# Altium schematic symbol library DX_test_lib2.SchLib: 40 symbols
Pins are listed as number, name and electrical type; pins without a type are passive.

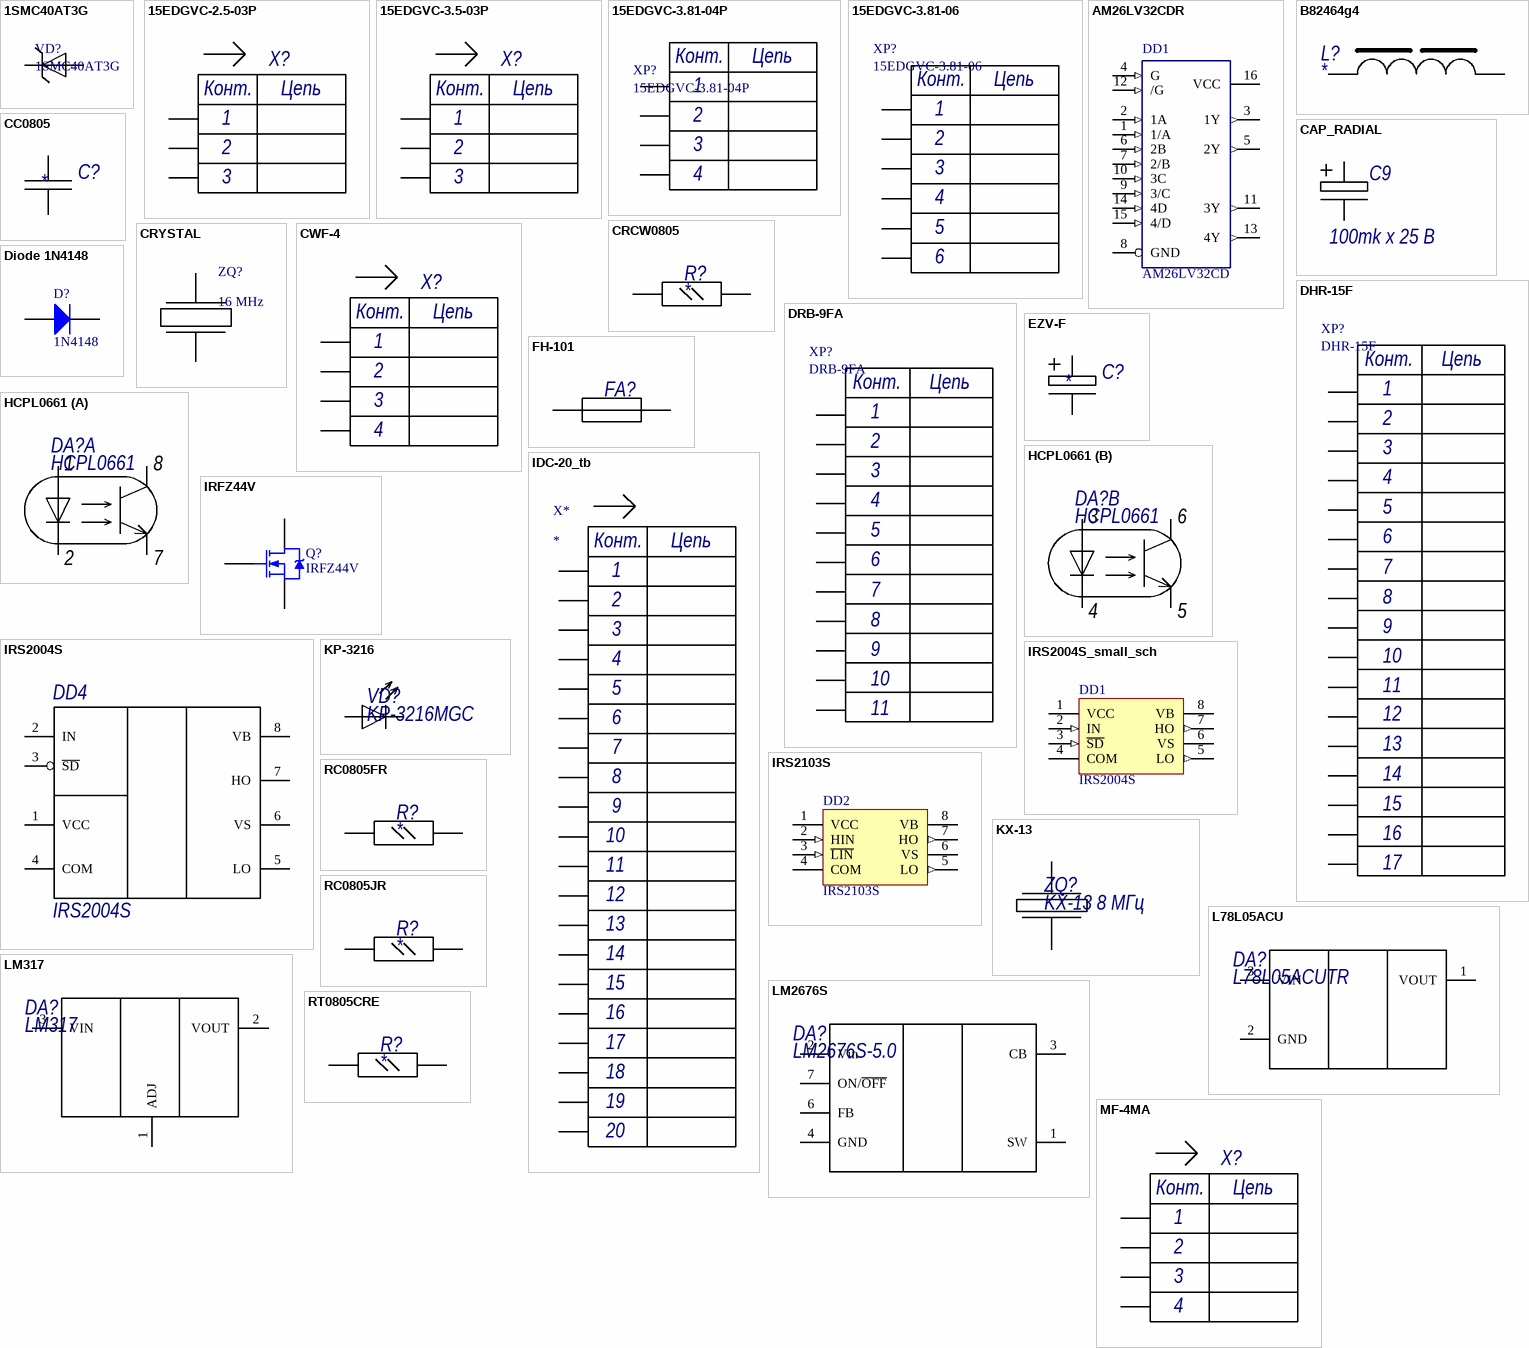
[diagram p0: symbols 1SMC40AT3G to RT0805CRE]

## 1SMC40AT3G
designator VD?
TVS Diode 1.5kV 40V; ComponentName: 1SMC40AT3G; ComponentType: Диод
footprint DDPAK
pins: 1 K "Катод", 2 A "Анод"

## 15EDGVC-2.5-03P
designator X?  (value not drawn)
Клеммник разъемный прямой; Manufacturer: DEGSON; ComponentType: Клеммник разъемный; ComponentName: 15EDGVC-2.5-03P
footprint 15EDGVC-2.5-03P
pins: 1, 2, 3
text: Конт.; Цепь

## 15EDGVC-3.5-03P
designator X?  (value not drawn)
Клеммник разъемный прямой; Manufacturer: DEGSON; ComponentType: Клеммник разъемный; ComponentName: 15EDGVC-3.5-03P
footprint 15EDGVC-3.5-03P
pins: 1, 2, 3
text: Конт.; Цепь

## 15EDGVC-3.81-04P
designator XP?
Connector; ComponentName: 15EDGVC-3.81-04P; ComponentType: Разъём
footprint 15EDGVC-3.81-04P
pins: 1, 2, 3, 4
text: Конт.; Цепь

## 15EDGVC-3.81-06
designator XP?
Connector 15EDGVC-3.81-06; ComponentName: 15EDGVC-3.81-06; ComponentType: Разъём
footprint 15EDGVC-3.81-06
pins: 1, 2, 3, 4, 5, 6
text: Конт.; Цепь

## AM26LV32CDR
designator DD1, comment AM26LV32CD
Differential line receiver; CompName: Микросхема; CompType: AM26LV32CD
footprint SO16_N (SOIC, 16-Leads, Body 9.9x3.9mm, Pitch 1.27mm, IPC Medium Density)
pins: 1 1/A (in), 2 1A (in), 3 1Y (out), 4 G (in), 5 2Y (out), 6 2B (in), 7 2/B (in), 8 GND (power), 9 3/C (in), 10 3C (in), 11 3Y (out), 12 /G (in), 13 4Y (out), 14 4D (in), 15 4/D (in), 16 VCC (power)

## B82464g4
designator L?
Силовой дроссель; Manufacturer: Epcos; ComponentName: B82464-G4334-M; ComponentType: Дроссель; Value: *
footprint B82464g4
pins: 1, 2

## CAP_RADIAL
designator C9, comment 100mk x 25 В
Выводные электролитические конденсаторы; Manufacturer: HITANO; Accuracy: 20%; CVoltage: 25 В; ComponentName: ECR; ComponentType: Конденсатор электролитический; Value: 100mk
footprint C_D5/F2.0_V
footprint C_D6.5/F2.5_V (Конденсатор, диаметр корпуса 6.5мм, межвыводное расстояние 2.5мм, вертикальное положение)
footprint C_D8/F3.5_V
footprint C_D10/F5.0_V
footprint C_D13/F5.0_V (Конденсатор 13х21x5, d=0.6)
pins: 1, 2

## CC0805
designator C?
Конденсатор; Manufacturer: YAGEO; Accuracy: 10%; CVoltage: 50 В; TC Material: X7R; ComponentName: СС0805; PackageName: 0805; ComponentType: Конденсатор; Value: *
footprint 0805
footprint 0805_A
pins: 1, 2

## CRCW0805
designator R?
Резистор; Accuracy: 5%; ComponentName: CRCW0805; PackageName: 0805; ComponentType: Резистор; Value: *
footprint 0805
footprint 0805_A
pins: 1, 2

## CRYSTAL
designator ZQ?, comment 16 MHz
Quarz_Crystal; ComponentName: 16 MHz; ComponentType: Quarz_Crystal
footprint CRYSTAL (Quarz_Crystal)
pins: 1, 2

## CWF-4
designator X?  (value not drawn)
Разъем питания, шаг 2.5мм; ComponentType: Разъем; ComponentName: CWF-4
footprint CWF-4
pins: 1, 2, 3, 4
text: Конт.; Цепь

## DHR-15F
designator XP?
Connector DHS-15F; ComponentName: DHR-15F; ComponentType: Разъём
footprint DHR-15F
pins: 1, 2, 3, 4, 5, 6, 7, 8, 9, 10, 11, 12, 13, 14, 15, 16, 17
text: Конт.; Цепь

## Diode 1N4148
designator D?, comment 1N4148
High Conductance Fast Diode; PackageName: DO-41; ComponentName: 1N4148; ComponentType: High Conductance Fast Diode; Manufacturer: *
footprint DIODE_DL-35 (Metal Electrode Face (MELF) Diode; Body 3.5 x 1.5 mm (LxDia))
simulation model 1N4148 (DIODE)
signal-integrity model 1N4148
pins: 1 A, 2 K

## DRB-9FA
designator XP?
Connector DRB-9FA; ComponentName: DRB-9FA; ComponentType: Разъём
footprint DRB-9FA
pins: 1, 2, 3, 4, 5, 6, 7, 8, 9, 10, 11
text: Конт.; Цепь

## EZV-F
designator C?
Конденсатор электролитический; Manufacturer: HITANO; Accuracy: 20%; CVoltage: 50 В; ComponentName: EZV-F; ComponentType: Конденсатор электролитический; Value: *
footprint ELCAP_SIZE_F
pins: 1, 2

## FH-101
designator FA?
Держатель предохранителя без крышки; ComponentName: FH-101; ComponentType: Держатель предохранителя
footprint FH-101
pins: 1, 2

## HCPL0661
designator DA?
Оптопара 2 канала; Manufacturer: HP; PackageName: SO-8; ComponentType: Микросхема; ComponentName: HCPL0661
footprint SO8N_MS012AA-II (www.avagotech.com, AV01-0547EN.pdf)
part A pins: 1 ANODE1 "Анод", 2 CATHODE1 "Катод", 7 E1 "Эмиттер", 8 C1 "Коллектор"
part B pins: 3 ANODE2 "Анод", 4 CATHODE2 "Катод", 5 E2 "Эмиттер", 6 C2 "Коллектор"

## IDC-20_tb
designator X*
Компонент для торцевой запайки IDC-20
footprint SO-8
pins: 1, 2, 3, 4, 5, 6, 7, 8, 9, 10, 11, 12, 13, 14, 15, 16, 17, 18, 19, 20
text: Конт.; Цепь

## IRFZ44V
designator Q?
N-Channel Power MOSFET; PackageName: TO-220AB; ComponentName: IRFZ44V; ComponentType: N-Channel Power MOSFET; Manufacturer: *
footprint TO-220AB (TO, Thru-Hole, Vertical, Heatsink Mounted; 3 In-Line Leads; Pitch 2.54 mm)
simulation model IRF1010 (Spice Subcircuit)
pins: 1 G, 2 D, 3 S

## IRS2004S
designator DD4
Драйвер MSFET; Manufacturer: IRF; PackageName: SO-8; ComponentType: Микросхема; ComponentName: IRS2004S
footprint SO-8
pins: 1 VCC, 2 IN, 3 ~{SD}, 4 COM, 5 LO, 6 VS, 7 HO, 8 VB

## IRS2004S_small_sch
designator DD1, comment IRS2004S
Драйвер MSFET; ComponentName: IRS2004S; ComponentType: Микросхема; Manufacturer: *; PackageName: SO-8
footprint SO-8
pins: 1 VCC (power), 2 IN (in), 3 ~{SD} (in), 4 COM (power), 5 LO (out), 6 VS (power), 7 HO (out), 8 VB (power)

## IRS2103S
designator DD2
Драйвер MSFET
footprint SO8
pins: 1 VCC (power), 2 HIN (in), 3 ~{LIN} (in), 4 COM (power), 5 LO (out), 6 VS (power), 7 HO (out), 8 VB (power)

## KP-3216
designator VD?, comment KP-3216MGC
Светодиод; Manufacturer: Kingbright; ComponentType: Светодиод; ComponentName: KP-3216MGC
footprint LED3216
pins: 1 A "Анод", 2 K "Катод"

## KX-13
designator ZQ?, comment KX-13 8 МГц
Резонатор кварцевый; Manufacturer: Geyer; ComponentType: Резонатор кварцевый; ComponentName: KX-13 8 МГц
footprint KX-13; pin to pad 2>3
pins: 1, 2

## L78L05ACU
designator DA?, comment L78L05ACUTR
Линейный стабилизатор напряжения; Manufacturer: STM; PackageName: SOT-89; ComponentType: Микросхема; ComponentName: L78L05ACUTR
footprint SOT-89
pins: 1 VOUT, 2 GND, 3 VIN

## LM317
designator DA?
Микросхема; PackageName: SOT-223; ComponentType: Микросхема; ComponentName: LM317; Mnufacturer: *
footprint SOT223_N (SOT223, 4-Leads, Body 6.5x3.5mm, Pitch 2.3mm, Lead Span 7mm, IPC Medium Density)
pins: 1 ADJ, 2 VOUT, 3 VIN

## LM2676S
designator DA?, comment LM2676S-5.0
понижающи регулятор 3 А; Manufacturer: Texas Instr.; PackageName: DDPAK; ComponentType: Микросхема; ComponentName: LM2676S-5.0
footprint DDPAK
pins: 1 SW, 2 Vin, 3 CB, 4 GND, 6 FB, 7 ON/~{OFF}

## MF-4MA
designator X?  (value not drawn)
Разъем, Mini-Fit; ComponentType: Разъем; ComponentName: MF-4MA
footprint MF-4MA
pins: 1, 2, 3, 4
text: Конт.; Цепь

## RC0805FR
designator R?
Резистор общего назначения 1%; Manufacturer: YAGEO; ComponentName: RC0805FR; PackageName: 0805; ComponentType: Резистор; Accuracy: 1%; Value: *
footprint 0805
footprint 0805_A
pins: 1, 2

## RC0805JR
designator R?
Резистор общего назначения 5%; Manufacturer: YAGEO; ComponentName: RC0805JR; PackageName: 0805; ComponentType: Резистор; Accuracy: 5%; Value: *
footprint 0805
footprint 0805_A
pins: 1, 2

## RT0805CRE
designator R?
Резистор прецизионный 0,25%, 50ppm/град; Manufacturer: YAGEO; Accuracy: 0,25%; ComponentName: RT0805CRE; PackageName: 0805; ComponentType: Резистор; Value: *
footprint 0805
footprint 0805_A
pins: 1, 2

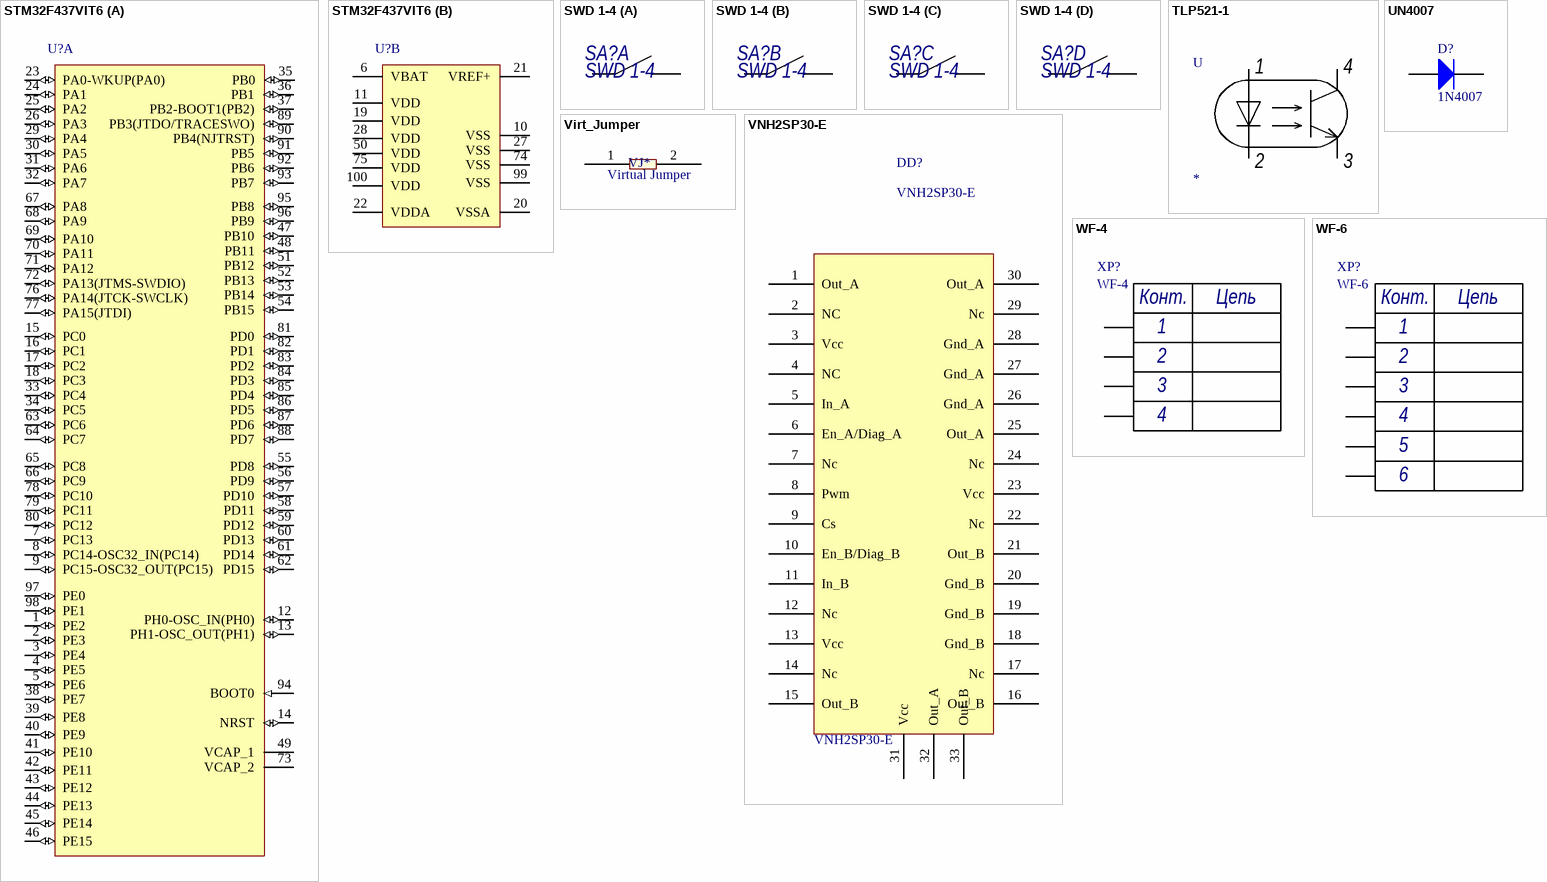
[diagram p1: symbols STM32F437VIT6 to WF-6]

## STM32F437VIT6
designator U?
ARM Cortex-M4 32-bit MCU+FPU, 210 DMIPS, 2048 kB Flash, 256 kB Internal RAM, 82 I/Os, 100-pin LQFP, -40 to 85 degC, Tray; Manufacturer: STMicroelectronics; PartNumber: STM32F437VIT6; D/A Converter: 2x12-bit; FLASH Size (Prog) (kB): 2048; I/Os (High Current): 82; Internal RAM Size (kB): 256; Operating Frequency(F) (Processor speed) (MHz): 168; Supply Voltage(Vcc) max (V): 3.6; Supply Voltage(Vcc) min (V): 1.8; DatasheetVersion: Rev. 1; PackageVersion: Rev. 1, 06/2013; PackageReference: LQFP100; PackageDescription: 100-Pin Low Profile Quad Flat Package, 14 x 14 mm Body, 0.5 mm Pitch; Supplier 1: Digi-Key; Supplier Part Number 1: STM32F437VIT6-ND; Supplier 2: Farnell; Supplier Part Number 2: 2333377; Supplier 3: Newark; Supplier Part Number 3: 99W9934; Supplier 4: Newark; Supplier Part Number 4: 66W7318; Supplier 5: Mouser; Supplier Part Number 5: 511-STM32F437VIT6; Core: ARM Cortex-M4; Packing: Tray; Mounting Technology: Surface Mount; ComponentLink1Description: Manufacturer URL; ComponentLink1URL: http://www.st.com/web/en/home.html; ComponentLink2Description: Datasheet; ComponentLink2URL: http://www.st.com/st-web-ui/static/active/en/resource/technical/document/datasheet/DM00077036.pdf; ComponentLink3Description: Package Specification; ComponentLink3URL: http://www.st.com/st-web-ui/static/active/en/resource/technical/document/data_brief/DM00071938.pdf
footprint STM-LQFP100_V (Thin QFP, 100-Leads, Body 14x14mm, Pitch 0.5mm, ST Recommended)
part A pins: 1 PE2 (io) "PE2/TRACECLK,FSMC_A23,ETH_MII_TXD3,EVENTOUT,SPI4_SCK", 2 PE3 (io) "PE3/TRACED0,FSMC_A19,EVENTOUT,SPI4_NSS", 3 PE4 (io) "PE4/TRACED1,FSMC_A20,DCMI_D4,EVENTOUT,SPI4_NSS", 4 PE5 (io) "PE5/TRACED2,FSMC_A21,TIM9_CH1,DCMI_D6,EVENTOUT,SPI4_MISO", 5 PE6 (io) "PE6/TRACED3,FSMC_A22,TIM9_CH2,DCMI_D7,EVENTOUT,SPI4_MOSI", 7 PC13 (io) "PC13/EVENTOUT/RTC_OUT,RTC_TAMP1,RTC_TS", 8 PC14-OSC32_IN(PC14) (io) "PC14-OSC32_IN(PC14)/EVENTOUT/OSC32_IN", 9 PC15-OSC32_OUT(PC15) (io) "PC15-OSC32_OUT(PC15)/EVENTOUT/OSC32_OUT", 12 PH0-OSC_IN(PH0) (io) "PH0-OSC_IN(PH0)/EVENTOUT/OSC_IN", 13 PH1-OSC_OUT(PH1) (io) "PH1-OSC_OUT(PH1)/EVENTOUT/OSC_OUT", 14 NRST (io), 15 PC0 (io) "PC0/OTG_HS_ULPI_STP,EVENTOUT/ADC123_IN10", 16 PC1 (io) "PC1/ETH_MDC,EVENTOUT/ADC123_IN11", 17 PC2 (io) "PC2/SPI2_MISO,OTG_HS_ULPI_DIR,ETH_MII_TXD2,I2S2ext_SD,EVENTOUT/ADC123_IN12", 18 PC3 (io) "PC3/SPI2_MOSI/I2S2_SD,OTG_HS_ULPI_NXT,ETH_MII_TX_CLK,EVENTOUT/ADC123_IN13", 23 PA0-WKUP(PA0) (io) "PA0-WKUP(PA0)/USART2_CTS,UART4_TX,ETH_MII_CRS,TIM2_CH1_ETR,TIM5_CH1,TIM8_ETR,EVENTOUT/ADC123_IN0,WKUP", 24 PA1 (io) "PA1/USART2_RTS,UART4_RX,ETH_RMII_REF_CLK,ETH_MII_RX_CLK,TIM5_CH2,TIMM2_CH2,EVENTOUT/ADC123_IN1", 25 PA2 (io) "PA2/USART2_TX,TIM5_CH3,TIM9_CH1,TIM2_CH3,ETH_MDIO,EVENTOUT/ADC123_IN2", 26 PA3 (io) "PA3/USART2_RX,TIM5_CH4,TIM9_CH2,TIM2_CH4,OTG_HS_ULPI_D0,ETH_MII_COL,EVENTOUT/ADC123_IN3", 29 PA4 (io) "PA4/SPI1_NSS,SPI3_NSS,USART2_CK,DCMI_HSYNC,OTG_HS_SOF,I2S3_WS,EVENTOUT/ADC12_IN4,DAC1_OUT", 30 PA5 (io) "PA5/SPI1_SCK,OTG_HS_ULPI_CK,TIM2_CH1_ETR,TIM8_CH1N,EVENTOUT/ADC12_IN5,DAC2_OUT", 31 PA6 (io) "PA6/SPI1_MISO,TIM8_BKIN,TIM13_CH1,DCMI_PIXCLK,TIM3_CH1,TIM1_BKIN,EVENTOUT/ADC12_IN6", 32 PA7 (io) "PA7/SPI1_MOSI,TIM8_CH1N,TIM14_CH1,TIM3_CH2,ETH_MII_RX_DV,TIM1_CH1N,ETH_RMII_CRS_DV,EVENTOUT/ADC12_IN7", 33 PC4 (io) "PC4/ETH_RMII_RX_D0,ETH_MII_RX_D0,EVENTOUT/ADC12_IN14", 34 PC5 (io) "PC5/ETH_RMII_RX_D1,ETH_MII_RX_D1,EVENTOUT/ADC12_IN15", 35 PB0 (io) "PB0/TIM3_CH3,TIM8_CH2N,OTG_HS_ULPI_D1,ETH_MII_RXD2,TIM1_CH2N,EVENTOUT/ADC12_IN8", 36 PB1 (io) "PB1/TIM3_CH4,TIM8_CH3N,OTG_HS_ULPI_D2,ETH_MII_RXD3,TIM1_CH3N,EVENTOUT/ADC12_IN9", 37 PB2-BOOT1(PB2) (io) "PB2-BOOT1(PB2)/EVENTOUT", 38 PE7 (io) "PE7/FSMC_D4,TIM1_ETR,EVENTOUT,UART7_RX", 39 PE8 (io) "PE8/FSMC_D5,TIM1_CH1N,EVENTOUT,UART7_TX", 40 PE9 (io) "PE9/FSMC_D6,TIM1_CH1,EVENTOUT", 41 PE10 (io) "PE10/FSMC_D7,TIM1_CH2N,EVENTOUT", 42 PE11 (io) "PE11/FSMC_D8,TIM1_CH2,EVENTOUT,SPI4_NSS", 43 PE12 (io) "PE12/FSMC_D9,TIM1_CH3N,EVENTOUT,SPI4_SCK", 44 PE13 (io) "PE13/FSMC_D10,TIM1_CH3,EVENTOUT,SPI4_MISO", 45 PE14 (io) "PE14/FSMC_D11,TIM1_CH4,EVENTOUT,SPI4_MOSI", 46 PE15 (io) "PE15/FSMC_D12,TIM1_BKIN,EVENTOUT", 47 PB10 (io) "PB10/SPI2_SCK/I2S2_CK,I2C2_SCL,USART3_TX,OTG_HS_ULPI_D3,ETH_MII_RX_ER,TIM2_CH3,EVENTOUT", 48 PB11 (io) "PB11/I2C2_SDA,USART3_RX,OTG_HS_ULPI_D4,ETH_RMII_TX_EN,ETH_MII_TX_EN,TIM2_CH4,EVENTOUT", 49 VCAP_1 (power), 51 PB12 (io) "PB12/SPI2_NSS/I2S2_WS,I2C2_SMBA,USART3_CK,TIM1_BKIN,CAN2_RX,OTG_HS_ULPI_D5,ETH_RMII_TXD0,ETH_MII_TXD0,OTG_HS_ID,EVENTOUT", 52 PB13 (io) "PB13/SPI2_SCK/I2S2_CK,USART3_CTS,TIM1_CH1N,CAN2_TX,OTG_HS_ULPI_D6,ETH_RMII_TXD1,ETH_MII_TXD1,EVENTOUT/OTG_HS_VBUS", 53 PB14 (io) "PB14/SPI2_MISO,TIM1_CH2N,TIM12_CH1,OTG_HS_DM,USART3_RTS,TIM8_CH2N,I2S2ext_SD,EVENTOUT", 54 PB15 (io) "PB15/SPI2_MOSI/I2S2_SD,TIM1_CH3N,TIM8_CH3N,TIM12_CH2,OTG_HS_DP,EVENTOUT,RTC_REFIN", 55 PD8 (io) "PD8/FSMC_D13,USART3_TX,EVENTOUT", 56 PD9 (io) "PD9/FSMC_D14,USART3_RX,EVENTOUT", 57 PD10 (io) "PD10/FSMC_D15,USART3_CK,EVENTOUT", 58 PD11 (io) "PD11/FSMC_CLE,FSMC_A16,USART3_CTS,EVENTOUT", 59 PD12 (io) "PD12/FSMC_ALE,FSMC_A17,TIM4_CH1,USART3_RTS,EVENTOUT", 60 PD13 (io) "PD13/FSMC_A18,TIM4_CH2,EVENTOUT", 61 PD14 (io) "PD14/FSMC_D0,TIM4_CH3,EVENTOUT", 62 PD15 (io) "PD15/FSMC_D1,TIM4_CH4,EVENTOUT", 63 PC6 (io) "PC6/I2S2_MCK,TIM8_CH1,SDIO_D6,USART6_TX,DCMI_D0,TIM3_CH1,EVENTOUT", 64 PC7 (io) "PC7/I2S3_MCK,TIM8_CH2,SDIO_D7,USART6_RX,DCMI_D1,TIM3_CH2,EVENTOUT", 65 PC8 (io) "PC8/TIM8_CH3,SDIO_D0,TIM3_CH3,USART6_CK,DCMI_D2,EVENTOUT", 66 PC9 (io) "PC9/I2S_CKIN,MCO2,TIM8_CH4,SDIO_D1,I2C3_SDA,DCMI_D3,TIM3_CH4,EVENTOUT", 67 PA8 (io) "PA8/MCO1,USART1_CK,TIM1_CH1,I2C3_SCL,OTG_FS_SOF,EVENTOUT", 68 PA9 (io) "PA9/USART1_TX,TIM1_CH2,I2C3_SMBA,DCMI_D0,EVENTOUT/OTG_FS_VBUS", 69 PA10 (io) "PA10/USART1_RX,TIM1_CH3,OTG_FS_ID,DCMI_D1,EVENTOUT", 70 PA11 (io) "PA11/USART1_CTS,CAN1_RX,TIM1_CH4,OTG_FS_DM,EVENTOUT", 71 PA12 (io) "PA12/USART1_RTS,CAN1_TX,TIM1_ETR,OTG_FS_DP,EVENTOUT", 72 PA13(JTMS-SWDIO) (io) "PA13(JTMS-SWDIO)/JTMS-SWDIO,EVENTOUT", 73 VCAP_2 (power), 76 PA14(JTCK-SWCLK) (io) "PA14(JTCK-SWCLK)/JTCK-SWCLK,EVENTOUT", 77 PA15(JTDI) (io) "PA15(JTDI)/JTDI,SPI3_NSS,I2S3_WS,TIM2_CH1_ETR,SPI1_NSS,EVENTOUT", 78 PC10 (io) "PC10/SPI3_SCK/I2S3_CK,UART4_TX,SDIO_D2,DCMI_D8,USART3_TX,EVENTOUT", 79 PC11 (io) "PC11/UART4_RX,SPI3_MISO,SDIO_D3,DCMI_D4,USART3_RX,I2S3ext_SD,EVENTOUT", 80 PC12 (io) "PC12/UART5_TX,SDIO_CK,DCMI_D9,SPI3_MOSI,I2S3_SD,USART3_CK,EVENTOUT", 81 PD0 (io) "PD0/FSMC_D2,CAN1_RX,EVENTOUT", 82 PD1 (io) "PD1/FSMC_D3,CAN1_TX,EVENTOUT", 83 PD2 (io) "PD2/TIM3_ETR,UART5_RX,SDIO_CMD,DCMI_D11,EVENTOUT", 84 PD3 (io) "PD3/FSMC_CLK,USART2_CTS,EVENTOUT,SPI2_SCK,I2S2_CK,DCMI_D5", 85 PD4 (io) "PD4/FSMC_NOE,USART2_RTS,EVENTOUT", 86 PD5 (io) "PD5/FSMC_NWE,USART2_TX,EVENTOUT", 87 PD6 (io) "PD6/FSMC_NWAIT,USART2_RX,EVENTOUT,SPI3_MOSI,I2S3_MOSI,DCMI_D10", 88 PD7 (io) "PD7/USART2_CK,FSMC_NE1,FSMC_NCE2,EVENTOUT", 89 PB3(JTDO/TRACESWO) (io) "PB3(JTDO/TRACESWO)/JTDO/TRACESWO,SPI3_SCK/I2S3_CK,TIM2_CH2,SPI1_SCK,EVENTOUT", 90 PB4(NJTRST) (io) "PB4(NJTRST)/NJTRST,SPI3_MISO,TIM3_CH1,SPI1_MISO,I2S3ext_SD,EVENTOUT", 91 PB5 (io) "PB5/I2C1_SMBA,CAN2_RX,OTG_HS_ULPI_D7,ETH_PPS_OUT,TIM3_CH2,SPI1_MOSI,SPI3_MOSI,DCMI_D10,I2S3_SD,EVENTOUT", 92 PB6 (io) "PB6/I2C1_SCL,TIM4_CH1,CAN2_TX,DCMI_D5,USART1_TX,EVENTOUT", 93 PB7 (io) "PB7/I2C1_SDA,FSMC_NL(NADV),DCMI_VSYNC,USART1_RX,TIM4_CH2,EVENTOUT", 94 BOOT0 (in) "BOOT0/VPP", 95 PB8 (io) "PB8/TIM4_CH3,SDIO_D4,TIM10_CH1,DCMI_D6,ETH_MII_TXD3,I2C1_SCL,CAN1_RX,EVENTOUT", 96 PB9 (io) "PB9/SPI2_NSS/I2S2_WS,TIM4_CH4,TIM11_CH1,SDIO_D5,DCMI_D7,I2C1_SDA,CAN1_TX,EVENTOUT", 97 PE0 (io) "PE0/TIM4_ETR,FSMC_NBL0,DCMI_D2,EVENTOUT,UART8_RX", 98 PE1 (io) "PE1/FSMC_NBL1,DCMI_D3,EVENTOUT,UART8_TX"
part B pins: 6 VBAT (power), 10 VSS (power), 11 VDD (power), 19 VDD (power), 20 VSSA (power), 21 VREF+ (power), 22 VDDA (power), 27 VSS (power), 28 VDD (power), 50 VDD (power), 74 VSS (power), 75 VDD (power), 99 VSS (power), 100 VDD (power)

## SWD 1-4
designator SA?
DIP переключатель; ComponentType: Переключатель; ComponentName: SWD 1-4
footprint SWD 1-4 (DIP переключатель)
part A pins: 1, 2
part B pins: 3, 4
part C pins: 5, 6
part D pins: 7, 8

## TLP521-1
designator U
footprint TLP251-1 (Оптопара одноканальная TLP251-1)
pins: 1 ANODE1 "Анод", 2 CATHODE1 "Катод", 7 E1 "Эмиттер", 8 C1 "Коллектор"
text: 4; 3

## UN4007
designator D?, comment 1N4007
1 Amp General Purpose Rectifier; PackageName: DL-35; ComponentName: 1N4007; ComponentType: Diode; Manufacturer: *
footprint DO-41
simulation model 1N4007 (DIODE)
signal-integrity model 1N4007
pins: 1 A, 2 K

## Virt_Jumper
designator VJ*, comment Virtual Jumper  (net tie, no BOM)
ComponentName: Virtual Jumper
footprint Virtual Jumper
pins: 1, 2

## VNH2SP30-E
designator DD?
Manufacturer: STM; ComponentType: Микросхема; ComponentName: VNH2SP30-E
footprint SO-30
pins: 1 Out_A, 2 NC, 3 Vcc, 4 NC, 5 In_A, 6 En_A/Diag_A, 7 Nc, 8 Pwm, 9 Cs, 10 En_B/Diag_B, 11 In_B, 12 Nc, 13 Vcc, 14 Nc, 15 Out_B, 16 Out_B, 17 Nc, 18 Gnd_B, 19 Gnd_B, 20 Gnd_B, 21 Out_B, 22 Nc, 23 Vcc, 24 Nc, 25 Out_A, 26 Gnd_A, 27 Gnd_A, 28 Gnd_A, 29 Nc, 30 Out_A, 31 Vcc, 32 Out_A, 33 Out_B

## WF-4
designator XP?
Connector WF-4; ComponentName: WF-4
footprint WF-4
pins: 1, 2, 3, 4
text: Конт.; Цепь

## WF-6
designator XP?
Connector WF-6; ComponentName: WF-6; ComponentType: Разъём
footprint WF-6 (Connector WF-6)
pins: 1, 2, 3, 4, 5, 6
text: Конт.; Цепь